# EAGLE library part UOLED-160-G2 (library 4D-Systems)
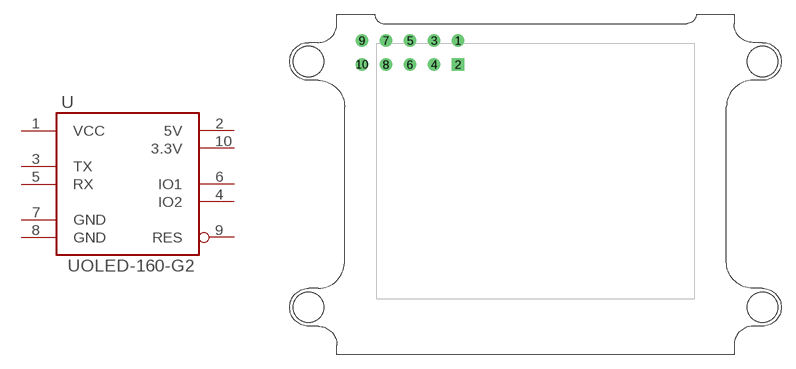
[diagram p1: symbol with the pads of UOLED-160-G2; footprint UOLED-160-G2]

Designator prefix -

## UOLED-160-G2  [UOLED-160-G2]
1  VCC  pwr
2  5V  pwr
3  TX
4  IO2
5  RX
6  IO1
7  GND  pwr
8  GND  pwr
9  RES
10  3.3V  pwr

## Footprint UOLED-160-G2 (pad centres in mm)
drill 0.8: 1 -8.2,14.2; 3 -10.74,14.2; 4 -10.74,11.66; 5 -13.28,14.2; 6 -13.28,11.66; 7 -15.82,14.2; 8 -15.82,11.66; 9 -18.36,14.2; 10 -18.36,11.66
drill 0.8 square: 2 -8.2,11.66
hole 3.2 at 24,12
hole 3.2 at -24,12
hole 3.2 at -24,-14
hole 3.2 at 24,-14